# Altium footprint library HexaPod - Connector.PcbLib: 3 footprints
Each footprint in its own frame and in the unit in brackets; x right, y up, seen from the top. Pads: shape width x height; smd on the part's side, far side on the other; paste and mask are expansions set on the pad; w line width, h text height; cw(c..) or ccw(c..) is an arc to the next point about the centre after c.
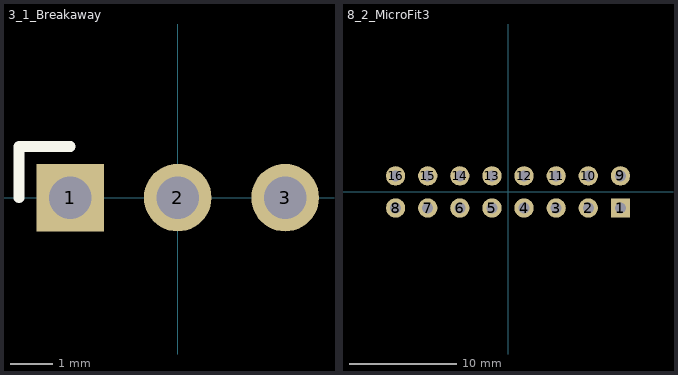
[diagram p0: the footprints below, top view; thin cyan lines are the x and y axes]

## 3_1_Breakaway [mm]
pads (3):
  rect 1.6x1.6 hole 1: 1(-2.54,0)
  round 1.6 hole 1: 2(0,0) 3(2.54,0)
Top Overlay:
  lines w0.254: -3.75,0 -3.75,1.21 -2.54,1.21
3D body "3_1_Pin_Breakaway.step": height 9.25, standoff -2.9, extent -3.81,-1.27 3.81,1.27

## 8_2_MicroFit3 [mm]
pads (18):
  rect 1.8x1.8 hole 1.02: 1(10.5,-1.5)
  round 1.8 hole 1.02: 2(7.5,-1.5) 3(4.5,-1.5) 4(1.5,-1.5) 5(-1.5,-1.5) 6(-4.5,-1.5) 7(-7.5,-1.5) 8(-10.5,-1.5) 9(10.5,1.5) 10(7.5,1.5) 11(4.5,1.5) 12(1.5,1.5) 13(-1.5,1.5) 14(-4.5,1.5) 15(-7.5,1.5) 16(-10.5,1.5)
  round 1.02 on Drill Drawing: 17(-13.5,2.44) 17(13.5,2.44)
3D body "8_2_MicroFit3.step": height 4.95, standoff -8.14, extent -14.075,-3.94 14.075,4.83

## PCBComponent_1 [mm]